# Altium integrated library Microchip Thermal Management.IntLib: 360 symbols (part 8 of 10)
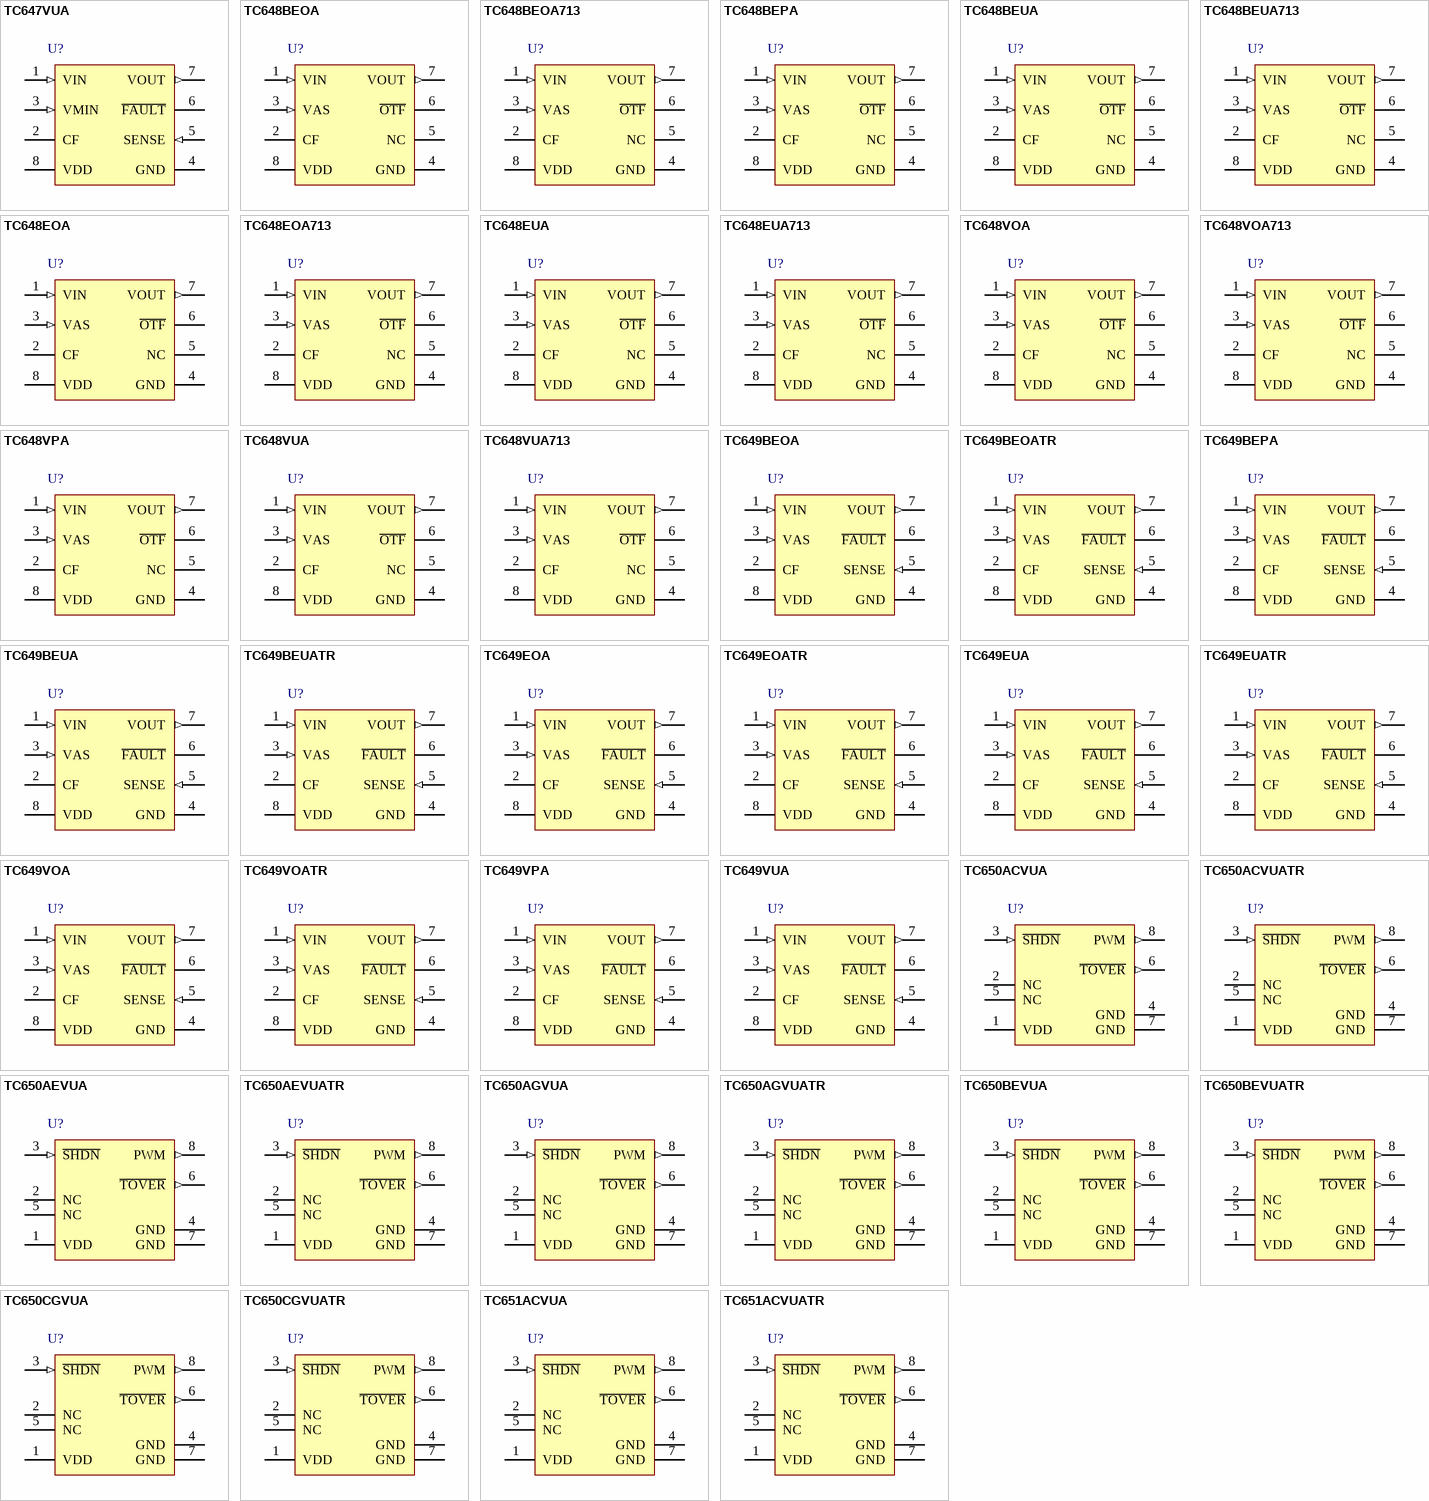
[diagram p16: symbols TC647VUA to TC651ACVUATR]

## TC649VOA
designator U?
PWM Fan Speed Controller with Auto-Shutdown and FanSense Technology, 8-Pin SOIC; Manufacturer: Microchip; PartNumber: TC649VOA; DatasheetVersion: revC, Oct-2002; PackageVersion: revBB, Aug-2009; PackageReference: SOIC-OA8; PackageDescription: 8-Lead Plastic Small Outline (OA) - Narrow, 3.90mm Body [SOIC]; Supplier 1: Digi-Key; Supplier Part Number 1: TC649VOA-ND; Supplier 2: Newark; Supplier Part Number 2: 88K1246; Supplier 3: Mouser; Supplier Part Number 3: 579-TC649VOA; Mounting Technology: Surface Mount; Code_IPC: SOIC127P600-8; ComponentLink1Description: Manufacturer URL; ComponentLink1URL: http://www.microchip.com/; ComponentLink2Description: Datasheet; ComponentLink2URL: http://ww1.microchip.com/downloads/en/DeviceDoc/21449c.pdf; ComponentLink3Description: Package Specification; ComponentLink3URL: http://www.microchip.com/stellent/groups/techpub_sg/documents/packagingspec/en012702.pdf
footprint SOIC-OA8_N (SOIC, 8-Leads, Body 4.9x3.9mm, Pitch 1.27mm, IPC Medium Density)
footprint SOIC-OA8_L (SOIC, 8-Leads, Body 4.9x3.9mm, Pitch 1.27mm, IPC High Density)
footprint SOIC-OA8_M (SOIC, 8-Leads, Body 4.9x3.9mm, Pitch 1.27mm, IPC Low Density)
pins: 1 VIN (in), 2 CF, 3 VAS (in), 4 GND (power), 5 SENSE (in), 6 ~{FAULT} (oc), 7 VOUT (out), 8 VDD (power)

## TC649VOATR
designator U?
PWM Fan Speed Controller with Auto-Shutdown and FanSense Technology, 8-Pin SOIC, Commercial Temperature, Tape and Reel; Manufacturer: Microchip; PartNumber: TC649VOATR; DatasheetVersion: revC, Oct-2002; PackageVersion: revBB, Aug-2009; PackageReference: SOIC-OA8; PackageDescription: 8-Lead Plastic Small Outline (OA) - Narrow, 3.90mm Body [SOIC]; Supplier 1: Digi-Key; Supplier Part Number 1: TC649VOATR-ND; Supplier 2: Mouser; Supplier Part Number 2: 579-TC649VOATR; Mounting Technology: Surface Mount; Code_IPC: SOIC127P600-8; ComponentLink1Description: Manufacturer URL; ComponentLink1URL: http://www.microchip.com/; ComponentLink2Description: Datasheet; ComponentLink2URL: http://ww1.microchip.com/downloads/en/DeviceDoc/21449c.pdf; ComponentLink3Description: Package Specification; ComponentLink3URL: http://www.microchip.com/stellent/groups/techpub_sg/documents/packagingspec/en012702.pdf
footprint SOIC-OA8_N (SOIC, 8-Leads, Body 4.9x3.9mm, Pitch 1.27mm, IPC Medium Density)
footprint SOIC-OA8_L (SOIC, 8-Leads, Body 4.9x3.9mm, Pitch 1.27mm, IPC High Density)
footprint SOIC-OA8_M (SOIC, 8-Leads, Body 4.9x3.9mm, Pitch 1.27mm, IPC Low Density)
pins: 1 VIN (in), 2 CF, 3 VAS (in), 4 GND (power), 5 SENSE (in), 6 ~{FAULT} (oc), 7 VOUT (out), 8 VDD (power)

## TC649VPA
designator U?
PWM Fan Speed Controller with Auto-Shutdown and FanSense Technology, 8-Pin PDIP; Manufacturer: Microchip; PartNumber: TC649VPA; DatasheetVersion: revC, Oct-2002; PackageVersion: revBB, Aug-2009; PackageReference: PDIP300-PA8; PackageDescription: 8-Lead Plastic Dual In-Line (PA) - 300 mil Body [PDIP]; Supplier 1: Digi-Key; Supplier Part Number 1: TC649VPA-ND; Supplier 2: Farnell; Supplier Part Number 2: 1852273; Supplier 3: Newark; Supplier Part Number 3: 96K4038; Supplier 4: Mouser; Supplier Part Number 4: 579-TC649VPA; Mounting Technology: Through Hole; Code_JEDEC: MS-001-BA; ComponentLink1Description: Manufacturer URL; ComponentLink1URL: http://www.microchip.com/; ComponentLink2Description: Datasheet; ComponentLink2URL: http://ww1.microchip.com/downloads/en/DeviceDoc/21449c.pdf; ComponentLink3Description: Package Specification; ComponentLink3URL: http://www.microchip.com/stellent/groups/techpub_sg/documents/packagingspec/en012702.pdf
footprint PDIP300-PA8 (DIP, 8-Leads, Row Spacing 7.62mm, Pitch 2.54mm, Body 9.5x6.6mm)
pins: 1 VIN (in), 2 CF, 3 VAS (in), 4 GND (power), 5 SENSE (in), 6 ~{FAULT} (oc), 7 VOUT (out), 8 VDD (power)

## TC649VUA
designator U?
PWM Fan Speed Controller with Auto-Shutdown and FanSense Technology, 8-Pin MSOP; Manufacturer: Microchip; PartNumber: TC649VUA; DatasheetVersion: revC, Oct-2002; PackageVersion: revBB, Aug-2009; PackageReference: MSOP-UA8; PackageDescription: 8-Lead Plastic Micro Small Outline Package (UA) [MSOP]; Supplier 1: Digi-Key; Supplier Part Number 1: TC649VUA-ND; Supplier 2: Mouser; Supplier Part Number 2: 579-TC649VUA; Mounting Technology: Surface Mount; Code_JEDEC: MO-187-AA; ComponentLink1Description: Manufacturer URL; ComponentLink1URL: http://www.microchip.com/; ComponentLink2Description: Datasheet; ComponentLink2URL: http://ww1.microchip.com/downloads/en/DeviceDoc/21449c.pdf; ComponentLink3Description: Package Specification; ComponentLink3URL: http://www.microchip.com/stellent/groups/techpub_sg/documents/packagingspec/en012702.pdf
footprint MSOP-UA8_N (TSOP, 8-Leads, Body 3x3mm, Pitch 0.65mm, IPC Medium Density)
footprint MSOP-UA8_L (TSOP, 8-Leads, Body 3x3mm, Pitch 0.65mm, IPC High Density)
footprint MSOP-UA8_M (TSOP, 8-Leads, Body 3x3mm, Pitch 0.65mm, IPC Low Density)
pins: 1 VIN (in), 2 CF, 3 VAS (in), 4 GND (power), 5 SENSE (in), 6 ~{FAULT} (oc), 7 VOUT (out), 8 VDD (power)

## TC650ACVUA
designator U?
Tiny Integrated Temperature Sensor & Brushless DC Fan Controller with Overtemperature Alert, 8-Pin MSOP, Extended Temperature; Manufacturer: Microchip; PartNumber: TC650ACVUA; DatasheetVersion: revC, Aug-2004; PackageVersion: revBB, Aug-2009; PackageReference: MSOP-UA8; PackageDescription: 8-Lead Plastic Micro Small Outline Package (UA) [MSOP]; Supplier 1: Digi-Key; Supplier Part Number 1: TC650ACVUA-ND; Supplier 2: Farnell; Supplier Part Number 2: 1852274; Supplier 3: Newark; Supplier Part Number 3: 92C6365; Supplier 4: Mouser; Supplier Part Number 4: 579-TC650ACVUA; Mounting Technology: Surface Mount; Code_JEDEC: MO-187-AA; ComponentLink1Description: Manufacturer URL; ComponentLink1URL: http://www.microchip.com/; ComponentLink2Description: Datasheet; ComponentLink2URL: http://ww1.microchip.com/downloads/en/DeviceDoc/21450c.pdf; ComponentLink3Description: Package Specification; ComponentLink3URL: http://www.microchip.com/stellent/groups/techpub_sg/documents/packagingspec/en012702.pdf
footprint MSOP-UA8_N (TSOP, 8-Leads, Body 3x3mm, Pitch 0.65mm, IPC Medium Density)
footprint MSOP-UA8_L (TSOP, 8-Leads, Body 3x3mm, Pitch 0.65mm, IPC High Density)
footprint MSOP-UA8_M (TSOP, 8-Leads, Body 3x3mm, Pitch 0.65mm, IPC Low Density)
pins: 1 VDD (power), 2 NC, 3 ~{SHDN} (in), 4 GND (power), 5 NC, 6 ~{TOVER} (out), 7 GND (power), 8 PWM (out)

## TC650ACVUATR
designator U?
Tiny Integrated Temperature Sensor & Brushless DC Fan Controller with Overtemperature Alert, 8-Pin MSOP, Extended Temperature, Tape and Reel; Manufacturer: Microchip; PartNumber: TC650ACVUATR; DatasheetVersion: revC, Aug-2004; PackageVersion: revBB, Aug-2009; PackageReference: MSOP-UA8; PackageDescription: 8-Lead Plastic Micro Small Outline Package (UA) [MSOP]; Supplier 1: Digi-Key; Supplier Part Number 1: TC650ACVUATR-ND; Supplier 2: Mouser; Supplier Part Number 2: 579-TC650ACVUATR; Mounting Technology: Surface Mount; Code_JEDEC: MO-187-AA; ComponentLink1Description: Manufacturer URL; ComponentLink1URL: http://www.microchip.com/; ComponentLink2Description: Datasheet; ComponentLink2URL: http://ww1.microchip.com/downloads/en/DeviceDoc/21450c.pdf; ComponentLink3Description: Package Specification; ComponentLink3URL: http://www.microchip.com/stellent/groups/techpub_sg/documents/packagingspec/en012702.pdf
footprint MSOP-UA8_N (TSOP, 8-Leads, Body 3x3mm, Pitch 0.65mm, IPC Medium Density)
footprint MSOP-UA8_L (TSOP, 8-Leads, Body 3x3mm, Pitch 0.65mm, IPC High Density)
footprint MSOP-UA8_M (TSOP, 8-Leads, Body 3x3mm, Pitch 0.65mm, IPC Low Density)
pins: 1 VDD (power), 2 NC, 3 ~{SHDN} (in), 4 GND (power), 5 NC, 6 ~{TOVER} (out), 7 GND (power), 8 PWM (out)

## TC650AEVUA
designator U?
Tiny Integrated Temperature Sensor & Brushless DC Fan Controller with Overtemperature Alert, 8-Pin MSOP, Extended Temperature; Manufacturer: Microchip; PartNumber: TC650AEVUA; DatasheetVersion: revC, Aug-2004; PackageVersion: revBB, Aug-2009; PackageReference: MSOP-UA8; PackageDescription: 8-Lead Plastic Micro Small Outline Package (UA) [MSOP]; Supplier 1: Digi-Key; Supplier Part Number 1: TC650AEVUA-ND; Supplier 2: Farnell; Supplier Part Number 2: 1852275; Supplier 3: Newark; Supplier Part Number 3: 92C6367; Supplier 4: Mouser; Supplier Part Number 4: 579-TC650AEVUA; Mounting Technology: Surface Mount; Code_JEDEC: MO-187-AA; ComponentLink1Description: Manufacturer URL; ComponentLink1URL: http://www.microchip.com/; ComponentLink2Description: Datasheet; ComponentLink2URL: http://ww1.microchip.com/downloads/en/DeviceDoc/21450c.pdf; ComponentLink3Description: Package Specification; ComponentLink3URL: http://www.microchip.com/stellent/groups/techpub_sg/documents/packagingspec/en012702.pdf
footprint MSOP-UA8_N (TSOP, 8-Leads, Body 3x3mm, Pitch 0.65mm, IPC Medium Density)
footprint MSOP-UA8_L (TSOP, 8-Leads, Body 3x3mm, Pitch 0.65mm, IPC High Density)
footprint MSOP-UA8_M (TSOP, 8-Leads, Body 3x3mm, Pitch 0.65mm, IPC Low Density)
pins: 1 VDD (power), 2 NC, 3 ~{SHDN} (in), 4 GND (power), 5 NC, 6 ~{TOVER} (out), 7 GND (power), 8 PWM (out)

## TC650AEVUATR
designator U?
Tiny Integrated Temperature Sensor & Brushless DC Fan Controller with Overtemperature Alert, 8-Pin MSOP, Extended Temperature, Tape and Reel; Manufacturer: Microchip; PartNumber: TC650AEVUATR; DatasheetVersion: revC, Aug-2004; PackageVersion: revBB, Aug-2009; PackageReference: MSOP-UA8; PackageDescription: 8-Lead Plastic Micro Small Outline Package (UA) [MSOP]; Supplier 1: Digi-Key; Supplier Part Number 1: TC650AEVUATR-ND; Supplier 2: Mouser; Supplier Part Number 2: 579-TC650AEVUATR; Mounting Technology: Surface Mount; Code_JEDEC: MO-187-AA; ComponentLink1Description: Manufacturer URL; ComponentLink1URL: http://www.microchip.com/; ComponentLink2Description: Datasheet; ComponentLink2URL: http://ww1.microchip.com/downloads/en/DeviceDoc/21450c.pdf; ComponentLink3Description: Package Specification; ComponentLink3URL: http://www.microchip.com/stellent/groups/techpub_sg/documents/packagingspec/en012702.pdf
footprint MSOP-UA8_N (TSOP, 8-Leads, Body 3x3mm, Pitch 0.65mm, IPC Medium Density)
footprint MSOP-UA8_L (TSOP, 8-Leads, Body 3x3mm, Pitch 0.65mm, IPC High Density)
footprint MSOP-UA8_M (TSOP, 8-Leads, Body 3x3mm, Pitch 0.65mm, IPC Low Density)
pins: 1 VDD (power), 2 NC, 3 ~{SHDN} (in), 4 GND (power), 5 NC, 6 ~{TOVER} (out), 7 GND (power), 8 PWM (out)

## TC650AGVUA
designator U?
Tiny Integrated Temperature Sensor & Brushless DC Fan Controller with Overtemperature Alert, 8-Pin MSOP, Extended Temperature; Manufacturer: Microchip; PartNumber: TC650AGVUA; DatasheetVersion: revC, Aug-2004; PackageVersion: revBB, Aug-2009; PackageReference: MSOP-UA8; PackageDescription: 8-Lead Plastic Micro Small Outline Package (UA) [MSOP]; Supplier 1: Digi-Key; Supplier Part Number 1: TC650AGVUA-ND; Supplier 2: Farnell; Supplier Part Number 2: 1852276; Supplier 3: Newark; Supplier Part Number 3: 92C6369; Supplier 4: Mouser; Supplier Part Number 4: 579-TC650AGVUA; Mounting Technology: Surface Mount; Code_JEDEC: MO-187-AA; ComponentLink1Description: Manufacturer URL; ComponentLink1URL: http://www.microchip.com/; ComponentLink2Description: Datasheet; ComponentLink2URL: http://ww1.microchip.com/downloads/en/DeviceDoc/21450c.pdf; ComponentLink3Description: Package Specification; ComponentLink3URL: http://www.microchip.com/stellent/groups/techpub_sg/documents/packagingspec/en012702.pdf
footprint MSOP-UA8_N (TSOP, 8-Leads, Body 3x3mm, Pitch 0.65mm, IPC Medium Density)
footprint MSOP-UA8_L (TSOP, 8-Leads, Body 3x3mm, Pitch 0.65mm, IPC High Density)
footprint MSOP-UA8_M (TSOP, 8-Leads, Body 3x3mm, Pitch 0.65mm, IPC Low Density)
pins: 1 VDD (power), 2 NC, 3 ~{SHDN} (in), 4 GND (power), 5 NC, 6 ~{TOVER} (out), 7 GND (power), 8 PWM (out)

## TC650AGVUATR
designator U?
Tiny Integrated Temperature Sensor & Brushless DC Fan Controller with Overtemperature Alert, 8-Pin MSOP, Extended Temperature, Tape and Reel; Manufacturer: Microchip; PartNumber: TC650AGVUATR; DatasheetVersion: revC, Aug-2004; PackageVersion: revBB, Aug-2009; PackageReference: MSOP-UA8; PackageDescription: 8-Lead Plastic Micro Small Outline Package (UA) [MSOP]; Supplier 1: Digi-Key; Supplier Part Number 1: TC650AGVUATR-ND; Supplier 2: Mouser; Supplier Part Number 2: 579-TC650AGVUATR; Mounting Technology: Surface Mount; Code_JEDEC: MO-187-AA; ComponentLink1Description: Manufacturer URL; ComponentLink1URL: http://www.microchip.com/; ComponentLink2Description: Datasheet; ComponentLink2URL: http://ww1.microchip.com/downloads/en/DeviceDoc/21450c.pdf; ComponentLink3Description: Package Specification; ComponentLink3URL: http://www.microchip.com/stellent/groups/techpub_sg/documents/packagingspec/en012702.pdf
footprint MSOP-UA8_N (TSOP, 8-Leads, Body 3x3mm, Pitch 0.65mm, IPC Medium Density)
footprint MSOP-UA8_L (TSOP, 8-Leads, Body 3x3mm, Pitch 0.65mm, IPC High Density)
footprint MSOP-UA8_M (TSOP, 8-Leads, Body 3x3mm, Pitch 0.65mm, IPC Low Density)
pins: 1 VDD (power), 2 NC, 3 ~{SHDN} (in), 4 GND (power), 5 NC, 6 ~{TOVER} (out), 7 GND (power), 8 PWM (out)

## TC650BEVUA
designator U?
Tiny Integrated Temperature Sensor & Brushless DC Fan Controller with Overtemperature Alert, 8-Pin MSOP, Extended Temperature; Manufacturer: Microchip; PartNumber: TC650BEVUA; DatasheetVersion: revC, Aug-2004; PackageVersion: revBB, Aug-2009; PackageReference: MSOP-UA8; PackageDescription: 8-Lead Plastic Micro Small Outline Package (UA) [MSOP]; Supplier 1: Digi-Key; Supplier Part Number 1: TC650BEVUA-ND; Supplier 2: Farnell; Supplier Part Number 2: 1852277; Supplier 3: Newark; Supplier Part Number 3: 92C6371; Supplier 4: Mouser; Supplier Part Number 4: 579-TC650BEVUA; Mounting Technology: Surface Mount; Code_JEDEC: MO-187-AA; ComponentLink1Description: Manufacturer URL; ComponentLink1URL: http://www.microchip.com/; ComponentLink2Description: Datasheet; ComponentLink2URL: http://ww1.microchip.com/downloads/en/DeviceDoc/21450c.pdf; ComponentLink3Description: Package Specification; ComponentLink3URL: http://www.microchip.com/stellent/groups/techpub_sg/documents/packagingspec/en012702.pdf
footprint MSOP-UA8_N (TSOP, 8-Leads, Body 3x3mm, Pitch 0.65mm, IPC Medium Density)
footprint MSOP-UA8_L (TSOP, 8-Leads, Body 3x3mm, Pitch 0.65mm, IPC High Density)
footprint MSOP-UA8_M (TSOP, 8-Leads, Body 3x3mm, Pitch 0.65mm, IPC Low Density)
pins: 1 VDD (power), 2 NC, 3 ~{SHDN} (in), 4 GND (power), 5 NC, 6 ~{TOVER} (out), 7 GND (power), 8 PWM (out)

## TC650BEVUATR
designator U?
Tiny Integrated Temperature Sensor & Brushless DC Fan Controller with Overtemperature Alert, 8-Pin MSOP, Extended Temperature, Tape and Reel; Manufacturer: Microchip; PartNumber: TC650BEVUATR; DatasheetVersion: revC, Aug-2004; PackageVersion: revBB, Aug-2009; PackageReference: MSOP-UA8; PackageDescription: 8-Lead Plastic Micro Small Outline Package (UA) [MSOP]; Supplier 1: Digi-Key; Supplier Part Number 1: TC650BEVUATR-ND; Supplier 2: Mouser; Supplier Part Number 2: 579-TC650BEVUATR; Mounting Technology: Surface Mount; Code_JEDEC: MO-187-AA; ComponentLink1Description: Manufacturer URL; ComponentLink1URL: http://www.microchip.com/; ComponentLink2Description: Datasheet; ComponentLink2URL: http://ww1.microchip.com/downloads/en/DeviceDoc/21450c.pdf; ComponentLink3Description: Package Specification; ComponentLink3URL: http://www.microchip.com/stellent/groups/techpub_sg/documents/packagingspec/en012702.pdf
footprint MSOP-UA8_N (TSOP, 8-Leads, Body 3x3mm, Pitch 0.65mm, IPC Medium Density)
footprint MSOP-UA8_L (TSOP, 8-Leads, Body 3x3mm, Pitch 0.65mm, IPC High Density)
footprint MSOP-UA8_M (TSOP, 8-Leads, Body 3x3mm, Pitch 0.65mm, IPC Low Density)
pins: 1 VDD (power), 2 NC, 3 ~{SHDN} (in), 4 GND (power), 5 NC, 6 ~{TOVER} (out), 7 GND (power), 8 PWM (out)

## TC650CGVUA
designator U?
Tiny Integrated Temperature Sensor & Brushless DC Fan Controller with Overtemperature Alert, 8-Pin MSOP, Extended Temperature; Manufacturer: Microchip; PartNumber: TC650CGVUA; DatasheetVersion: revC, Aug-2004; PackageVersion: revBB, Aug-2009; PackageReference: MSOP-UA8; PackageDescription: 8-Lead Plastic Micro Small Outline Package (UA) [MSOP]; Supplier 1: Digi-Key; Supplier Part Number 1: TC650CGVUA-ND; Supplier 2: Farnell; Supplier Part Number 2: 1852278; Supplier 3: Newark; Supplier Part Number 3: 92C6373; Supplier 4: Mouser; Supplier Part Number 4: 579-TC650CGVUA; Mounting Technology: Surface Mount; Code_JEDEC: MO-187-AA; ComponentLink1Description: Manufacturer URL; ComponentLink1URL: http://www.microchip.com/; ComponentLink2Description: Datasheet; ComponentLink2URL: http://ww1.microchip.com/downloads/en/DeviceDoc/21450c.pdf; ComponentLink3Description: Package Specification; ComponentLink3URL: http://www.microchip.com/stellent/groups/techpub_sg/documents/packagingspec/en012702.pdf
footprint MSOP-UA8_N (TSOP, 8-Leads, Body 3x3mm, Pitch 0.65mm, IPC Medium Density)
footprint MSOP-UA8_L (TSOP, 8-Leads, Body 3x3mm, Pitch 0.65mm, IPC High Density)
footprint MSOP-UA8_M (TSOP, 8-Leads, Body 3x3mm, Pitch 0.65mm, IPC Low Density)
pins: 1 VDD (power), 2 NC, 3 ~{SHDN} (in), 4 GND (power), 5 NC, 6 ~{TOVER} (out), 7 GND (power), 8 PWM (out)

## TC650CGVUATR
designator U?
Tiny Integrated Temperature Sensor & Brushless DC Fan Controller with Overtemperature Alert, 8-Pin MSOP, Extended Temperature, Tape and Reel; Manufacturer: Microchip; PartNumber: TC650CGVUATR; DatasheetVersion: revC, Aug-2004; PackageVersion: revBB, Aug-2009; PackageReference: MSOP-UA8; PackageDescription: 8-Lead Plastic Micro Small Outline Package (UA) [MSOP]; Supplier 1: Digi-Key; Supplier Part Number 1: TC650CGVUATR-ND; Supplier 2: Mouser; Supplier Part Number 2: 579-TC650CGVUATR; Mounting Technology: Surface Mount; Code_JEDEC: MO-187-AA; ComponentLink1Description: Manufacturer URL; ComponentLink1URL: http://www.microchip.com/; ComponentLink2Description: Datasheet; ComponentLink2URL: http://ww1.microchip.com/downloads/en/DeviceDoc/21450c.pdf; ComponentLink3Description: Package Specification; ComponentLink3URL: http://www.microchip.com/stellent/groups/techpub_sg/documents/packagingspec/en012702.pdf
footprint MSOP-UA8_N (TSOP, 8-Leads, Body 3x3mm, Pitch 0.65mm, IPC Medium Density)
footprint MSOP-UA8_L (TSOP, 8-Leads, Body 3x3mm, Pitch 0.65mm, IPC High Density)
footprint MSOP-UA8_M (TSOP, 8-Leads, Body 3x3mm, Pitch 0.65mm, IPC Low Density)
pins: 1 VDD (power), 2 NC, 3 ~{SHDN} (in), 4 GND (power), 5 NC, 6 ~{TOVER} (out), 7 GND (power), 8 PWM (out)

## TC651ACVUA
designator U?
Tiny Integrated Temperature Sensor & Brushless DC Fan Controller with Overtemperature Alert, 8-Pin MSOP, Extended Temperature; Manufacturer: Microchip; PartNumber: TC651ACVUA; DatasheetVersion: revC, Aug-2004; PackageVersion: revBB, Aug-2009; PackageReference: MSOP-UA8; PackageDescription: 8-Lead Plastic Micro Small Outline Package (UA) [MSOP]; Supplier 1: Digi-Key; Supplier Part Number 1: TC651ACVUA-ND; Supplier 2: Farnell; Supplier Part Number 2: 1852281; Supplier 3: Newark; Supplier Part Number 3: 92C6396; Supplier 4: Mouser; Supplier Part Number 4: 579-TC651ACVUA; Mounting Technology: Surface Mount; Code_JEDEC: MO-187-AA; ComponentLink1Description: Manufacturer URL; ComponentLink1URL: http://www.microchip.com/; ComponentLink2Description: Datasheet; ComponentLink2URL: http://ww1.microchip.com/downloads/en/DeviceDoc/21450c.pdf; ComponentLink3Description: Package Specification; ComponentLink3URL: http://www.microchip.com/stellent/groups/techpub_sg/documents/packagingspec/en012702.pdf
footprint MSOP-UA8_N (TSOP, 8-Leads, Body 3x3mm, Pitch 0.65mm, IPC Medium Density)
footprint MSOP-UA8_L (TSOP, 8-Leads, Body 3x3mm, Pitch 0.65mm, IPC High Density)
footprint MSOP-UA8_M (TSOP, 8-Leads, Body 3x3mm, Pitch 0.65mm, IPC Low Density)
pins: 1 VDD (power), 2 NC, 3 ~{SHDN} (in), 4 GND (power), 5 NC, 6 ~{TOVER} (out), 7 GND (power), 8 PWM (out)

## TC651ACVUATR
designator U?
Tiny Integrated Temperature Sensor & Brushless DC Fan Controller with Overtemperature Alert, 8-Pin MSOP, Extended Temperature, Tape and Reel; Manufacturer: Microchip; PartNumber: TC651ACVUATR; DatasheetVersion: revC, Aug-2004; PackageVersion: revBB, Aug-2009; PackageReference: MSOP-UA8; PackageDescription: 8-Lead Plastic Micro Small Outline Package (UA) [MSOP]; Supplier 1: Digi-Key; Supplier Part Number 1: TC651ACVUATR-ND; Supplier 2: Mouser; Supplier Part Number 2: 579-TC651ACVUATR; Mounting Technology: Surface Mount; Code_JEDEC: MO-187-AA; ComponentLink1Description: Manufacturer URL; ComponentLink1URL: http://www.microchip.com/; ComponentLink2Description: Datasheet; ComponentLink2URL: http://ww1.microchip.com/downloads/en/DeviceDoc/21450c.pdf; ComponentLink3Description: Package Specification; ComponentLink3URL: http://www.microchip.com/stellent/groups/techpub_sg/documents/packagingspec/en012702.pdf
footprint MSOP-UA8_N (TSOP, 8-Leads, Body 3x3mm, Pitch 0.65mm, IPC Medium Density)
footprint MSOP-UA8_L (TSOP, 8-Leads, Body 3x3mm, Pitch 0.65mm, IPC High Density)
footprint MSOP-UA8_M (TSOP, 8-Leads, Body 3x3mm, Pitch 0.65mm, IPC Low Density)
pins: 1 VDD (power), 2 NC, 3 ~{SHDN} (in), 4 GND (power), 5 NC, 6 ~{TOVER} (out), 7 GND (power), 8 PWM (out)

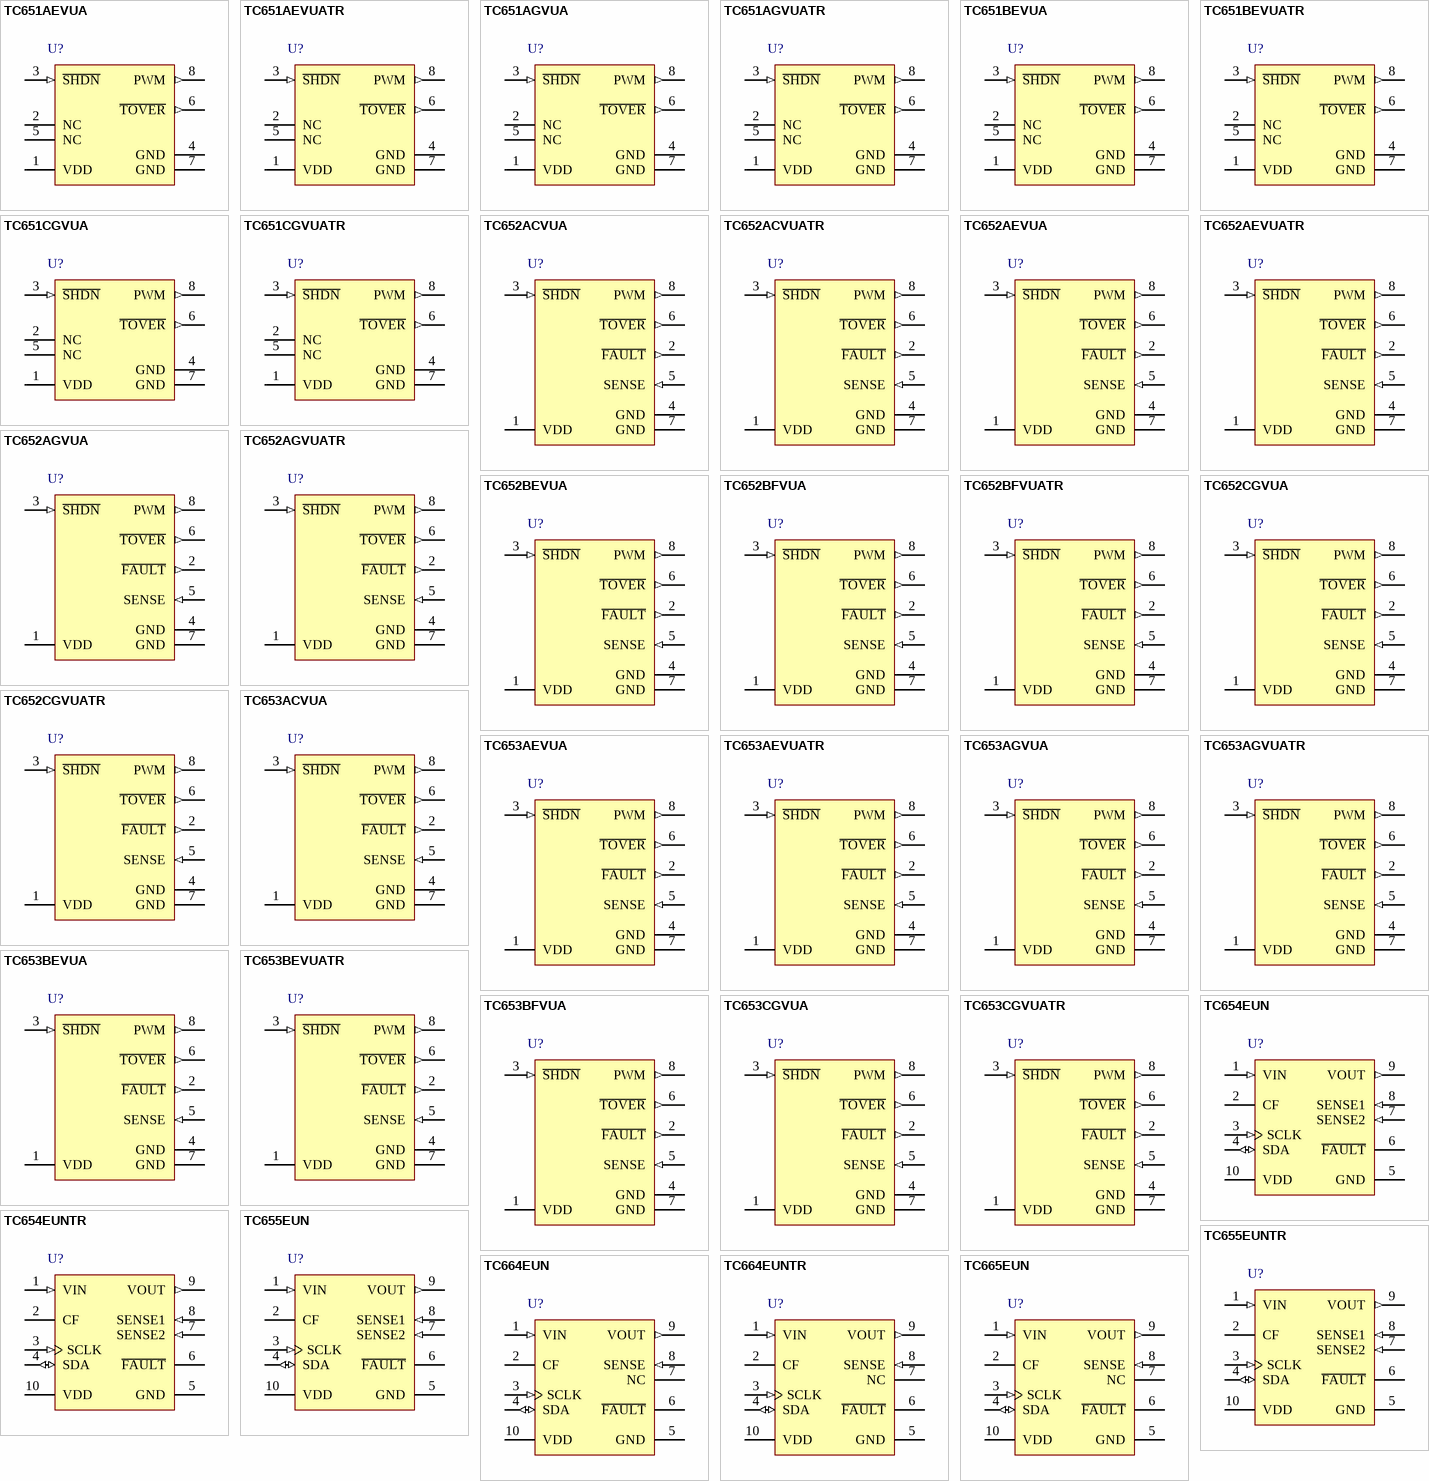
[diagram p7: symbols TC651AEVUA to TC665EUN]

## TC651AEVUA
designator U?
Tiny Integrated Temperature Sensor & Brushless DC Fan Controller with Overtemperature Alert, 8-Pin MSOP, Extended Temperature; Manufacturer: Microchip; PartNumber: TC651AEVUA; DatasheetVersion: revC, Aug-2004; PackageVersion: revBB, Aug-2009; PackageReference: MSOP-UA8; PackageDescription: 8-Lead Plastic Micro Small Outline Package (UA) [MSOP]; Supplier 1: Digi-Key; Supplier Part Number 1: TC651AEVUA-ND; Supplier 2: Newark; Supplier Part Number 2: 96K4039; Supplier 3: Mouser; Supplier Part Number 3: 579-TC651AEVUA; Mounting Technology: Surface Mount; Code_JEDEC: MO-187-AA; ComponentLink1Description: Manufacturer URL; ComponentLink1URL: http://www.microchip.com/; ComponentLink2Description: Datasheet; ComponentLink2URL: http://ww1.microchip.com/downloads/en/DeviceDoc/21450c.pdf; ComponentLink3Description: Package Specification; ComponentLink3URL: http://www.microchip.com/stellent/groups/techpub_sg/documents/packagingspec/en012702.pdf
footprint MSOP-UA8_N (TSOP, 8-Leads, Body 3x3mm, Pitch 0.65mm, IPC Medium Density)
footprint MSOP-UA8_L (TSOP, 8-Leads, Body 3x3mm, Pitch 0.65mm, IPC High Density)
footprint MSOP-UA8_M (TSOP, 8-Leads, Body 3x3mm, Pitch 0.65mm, IPC Low Density)
pins: 1 VDD (power), 2 NC, 3 ~{SHDN} (in), 4 GND (power), 5 NC, 6 ~{TOVER} (out), 7 GND (power), 8 PWM (out)

## TC651AEVUATR
designator U?
Tiny Integrated Temperature Sensor & Brushless DC Fan Controller with Overtemperature Alert, 8-Pin MSOP, Extended Temperature, Tape and Reel; Manufacturer: Microchip; PartNumber: TC651AEVUATR; DatasheetVersion: revC, Aug-2004; PackageVersion: revBB, Aug-2009; PackageReference: MSOP-UA8; PackageDescription: 8-Lead Plastic Micro Small Outline Package (UA) [MSOP]; Supplier 1: Digi-Key; Supplier Part Number 1: TC651AEVUATR-ND; Supplier 2: Mouser; Supplier Part Number 2: 579-TC651AEVUATR; Mounting Technology: Surface Mount; Code_JEDEC: MO-187-AA; ComponentLink1Description: Manufacturer URL; ComponentLink1URL: http://www.microchip.com/; ComponentLink2Description: Datasheet; ComponentLink2URL: http://ww1.microchip.com/downloads/en/DeviceDoc/21450c.pdf; ComponentLink3Description: Package Specification; ComponentLink3URL: http://www.microchip.com/stellent/groups/techpub_sg/documents/packagingspec/en012702.pdf
footprint MSOP-UA8_N (TSOP, 8-Leads, Body 3x3mm, Pitch 0.65mm, IPC Medium Density)
footprint MSOP-UA8_L (TSOP, 8-Leads, Body 3x3mm, Pitch 0.65mm, IPC High Density)
footprint MSOP-UA8_M (TSOP, 8-Leads, Body 3x3mm, Pitch 0.65mm, IPC Low Density)
pins: 1 VDD (power), 2 NC, 3 ~{SHDN} (in), 4 GND (power), 5 NC, 6 ~{TOVER} (out), 7 GND (power), 8 PWM (out)

## TC651AGVUA
designator U?
Tiny Integrated Temperature Sensor & Brushless DC Fan Controller with Overtemperature Alert, 8-Pin MSOP, Extended Temperature; Manufacturer: Microchip; PartNumber: TC651AGVUA; DatasheetVersion: revC, Aug-2004; PackageVersion: revBB, Aug-2009; PackageReference: MSOP-UA8; PackageDescription: 8-Lead Plastic Micro Small Outline Package (UA) [MSOP]; Supplier 1: Digi-Key; Supplier Part Number 1: TC651AGVUA-ND; Supplier 2: Farnell; Supplier Part Number 2: 1852282; Supplier 3: Newark; Supplier Part Number 3: 92C6400; Supplier 4: Mouser; Supplier Part Number 4: 579-TC651AGVUA; Mounting Technology: Surface Mount; Code_JEDEC: MO-187-AA; ComponentLink1Description: Manufacturer URL; ComponentLink1URL: http://www.microchip.com/; ComponentLink2Description: Datasheet; ComponentLink2URL: http://ww1.microchip.com/downloads/en/DeviceDoc/21450c.pdf; ComponentLink3Description: Package Specification; ComponentLink3URL: http://www.microchip.com/stellent/groups/techpub_sg/documents/packagingspec/en012702.pdf
footprint MSOP-UA8_N (TSOP, 8-Leads, Body 3x3mm, Pitch 0.65mm, IPC Medium Density)
footprint MSOP-UA8_L (TSOP, 8-Leads, Body 3x3mm, Pitch 0.65mm, IPC High Density)
footprint MSOP-UA8_M (TSOP, 8-Leads, Body 3x3mm, Pitch 0.65mm, IPC Low Density)
pins: 1 VDD (power), 2 NC, 3 ~{SHDN} (in), 4 GND (power), 5 NC, 6 ~{TOVER} (out), 7 GND (power), 8 PWM (out)

## TC651AGVUATR
designator U?
Tiny Integrated Temperature Sensor & Brushless DC Fan Controller with Overtemperature Alert, 8-Pin MSOP, Extended Temperature, Tape and Reel; Manufacturer: Microchip; PartNumber: TC651AGVUATR; DatasheetVersion: revC, Aug-2004; PackageVersion: revBB, Aug-2009; PackageReference: MSOP-UA8; PackageDescription: 8-Lead Plastic Micro Small Outline Package (UA) [MSOP]; Supplier 1: Digi-Key; Supplier Part Number 1: TC651AGVUATR-ND; Supplier 2: Mouser; Supplier Part Number 2: 579-TC651AGVUATR; Mounting Technology: Surface Mount; Code_JEDEC: MO-187-AA; ComponentLink1Description: Manufacturer URL; ComponentLink1URL: http://www.microchip.com/; ComponentLink2Description: Datasheet; ComponentLink2URL: http://ww1.microchip.com/downloads/en/DeviceDoc/21450c.pdf; ComponentLink3Description: Package Specification; ComponentLink3URL: http://www.microchip.com/stellent/groups/techpub_sg/documents/packagingspec/en012702.pdf
footprint MSOP-UA8_N (TSOP, 8-Leads, Body 3x3mm, Pitch 0.65mm, IPC Medium Density)
footprint MSOP-UA8_L (TSOP, 8-Leads, Body 3x3mm, Pitch 0.65mm, IPC High Density)
footprint MSOP-UA8_M (TSOP, 8-Leads, Body 3x3mm, Pitch 0.65mm, IPC Low Density)
pins: 1 VDD (power), 2 NC, 3 ~{SHDN} (in), 4 GND (power), 5 NC, 6 ~{TOVER} (out), 7 GND (power), 8 PWM (out)

## TC651BEVUA
designator U?
Tiny Integrated Temperature Sensor & Brushless DC Fan Controller with Overtemperature Alert, 8-Pin MSOP, Extended Temperature; Manufacturer: Microchip; PartNumber: TC651BEVUA; DatasheetVersion: revC, Aug-2004; PackageVersion: revBB, Aug-2009; PackageReference: MSOP-UA8; PackageDescription: 8-Lead Plastic Micro Small Outline Package (UA) [MSOP]; Supplier 1: Digi-Key; Supplier Part Number 1: TC651BEVUA-ND; Supplier 2: Farnell; Supplier Part Number 2: 1852283; Supplier 3: Newark; Supplier Part Number 3: 92C6402; Supplier 4: Mouser; Supplier Part Number 4: 579-TC651BEVUA; Mounting Technology: Surface Mount; Code_JEDEC: MO-187-AA; ComponentLink1Description: Manufacturer URL; ComponentLink1URL: http://www.microchip.com/; ComponentLink2Description: Datasheet; ComponentLink2URL: http://ww1.microchip.com/downloads/en/DeviceDoc/21450c.pdf; ComponentLink3Description: Package Specification; ComponentLink3URL: http://www.microchip.com/stellent/groups/techpub_sg/documents/packagingspec/en012702.pdf
footprint MSOP-UA8_N (TSOP, 8-Leads, Body 3x3mm, Pitch 0.65mm, IPC Medium Density)
footprint MSOP-UA8_L (TSOP, 8-Leads, Body 3x3mm, Pitch 0.65mm, IPC High Density)
footprint MSOP-UA8_M (TSOP, 8-Leads, Body 3x3mm, Pitch 0.65mm, IPC Low Density)
pins: 1 VDD (power), 2 NC, 3 ~{SHDN} (in), 4 GND (power), 5 NC, 6 ~{TOVER} (out), 7 GND (power), 8 PWM (out)

## TC651BEVUATR
designator U?
Tiny Integrated Temperature Sensor & Brushless DC Fan Controller with Overtemperature Alert, 8-Pin MSOP, Extended Temperature, Tape and Reel; Manufacturer: Microchip; PartNumber: TC651BEVUATR; DatasheetVersion: revC, Aug-2004; PackageVersion: revBB, Aug-2009; PackageReference: MSOP-UA8; PackageDescription: 8-Lead Plastic Micro Small Outline Package (UA) [MSOP]; Supplier 1: Digi-Key; Supplier Part Number 1: TC651BEVUATR-ND; Supplier 2: Mouser; Supplier Part Number 2: 579-TC651BEVUATR; Mounting Technology: Surface Mount; Code_JEDEC: MO-187-AA; ComponentLink1Description: Manufacturer URL; ComponentLink1URL: http://www.microchip.com/; ComponentLink2Description: Datasheet; ComponentLink2URL: http://ww1.microchip.com/downloads/en/DeviceDoc/21450c.pdf; ComponentLink3Description: Package Specification; ComponentLink3URL: http://www.microchip.com/stellent/groups/techpub_sg/documents/packagingspec/en012702.pdf
footprint MSOP-UA8_N (TSOP, 8-Leads, Body 3x3mm, Pitch 0.65mm, IPC Medium Density)
footprint MSOP-UA8_L (TSOP, 8-Leads, Body 3x3mm, Pitch 0.65mm, IPC High Density)
footprint MSOP-UA8_M (TSOP, 8-Leads, Body 3x3mm, Pitch 0.65mm, IPC Low Density)
pins: 1 VDD (power), 2 NC, 3 ~{SHDN} (in), 4 GND (power), 5 NC, 6 ~{TOVER} (out), 7 GND (power), 8 PWM (out)

## TC651CGVUA
designator U?
Tiny Integrated Temperature Sensor & Brushless DC Fan Controller with Overtemperature Alert, 8-Pin MSOP, Extended Temperature; Manufacturer: Microchip; PartNumber: TC651CGVUA; DatasheetVersion: revC, Aug-2004; PackageVersion: revBB, Aug-2009; PackageReference: MSOP-UA8; PackageDescription: 8-Lead Plastic Micro Small Outline Package (UA) [MSOP]; Supplier 1: Digi-Key; Supplier Part Number 1: TC651CGVUA-ND; Supplier 2: Farnell; Supplier Part Number 2: 1852284; Supplier 3: Newark; Supplier Part Number 3: 92C6404; Supplier 4: Mouser; Supplier Part Number 4: 579-TC651CGVUA; Mounting Technology: Surface Mount; Code_JEDEC: MO-187-AA; ComponentLink1Description: Manufacturer URL; ComponentLink1URL: http://www.microchip.com/; ComponentLink2Description: Datasheet; ComponentLink2URL: http://ww1.microchip.com/downloads/en/DeviceDoc/21450c.pdf; ComponentLink3Description: Package Specification; ComponentLink3URL: http://www.microchip.com/stellent/groups/techpub_sg/documents/packagingspec/en012702.pdf
footprint MSOP-UA8_N (TSOP, 8-Leads, Body 3x3mm, Pitch 0.65mm, IPC Medium Density)
footprint MSOP-UA8_L (TSOP, 8-Leads, Body 3x3mm, Pitch 0.65mm, IPC High Density)
footprint MSOP-UA8_M (TSOP, 8-Leads, Body 3x3mm, Pitch 0.65mm, IPC Low Density)
pins: 1 VDD (power), 2 NC, 3 ~{SHDN} (in), 4 GND (power), 5 NC, 6 ~{TOVER} (out), 7 GND (power), 8 PWM (out)

## TC651CGVUATR
designator U?
Tiny Integrated Temperature Sensor & Brushless DC Fan Controller with Overtemperature Alert, 8-Pin MSOP, Extended Temperature, Tape and Reel; Manufacturer: Microchip; PartNumber: TC651CGVUATR; DatasheetVersion: revC, Aug-2004; PackageVersion: revBB, Aug-2009; PackageReference: MSOP-UA8; PackageDescription: 8-Lead Plastic Micro Small Outline Package (UA) [MSOP]; Supplier 1: Digi-Key; Supplier Part Number 1: TC651CGVUATR-ND; Supplier 2: Mouser; Supplier Part Number 2: 579-TC651CGVUATR; Mounting Technology: Surface Mount; Code_JEDEC: MO-187-AA; ComponentLink1Description: Manufacturer URL; ComponentLink1URL: http://www.microchip.com/; ComponentLink2Description: Datasheet; ComponentLink2URL: http://ww1.microchip.com/downloads/en/DeviceDoc/21450c.pdf; ComponentLink3Description: Package Specification; ComponentLink3URL: http://www.microchip.com/stellent/groups/techpub_sg/documents/packagingspec/en012702.pdf
footprint MSOP-UA8_N (TSOP, 8-Leads, Body 3x3mm, Pitch 0.65mm, IPC Medium Density)
footprint MSOP-UA8_L (TSOP, 8-Leads, Body 3x3mm, Pitch 0.65mm, IPC High Density)
footprint MSOP-UA8_M (TSOP, 8-Leads, Body 3x3mm, Pitch 0.65mm, IPC Low Density)
pins: 1 VDD (power), 2 NC, 3 ~{SHDN} (in), 4 GND (power), 5 NC, 6 ~{TOVER} (out), 7 GND (power), 8 PWM (out)

## TC652ACVUA
designator U?
Integrated Temperature Sensor & Brushless DC Fan Controller with FanSense Detect & Over-Temperature, 8-Pin MSOP, Extended Temperature; Manufacturer: Microchip; PartNumber: TC652ACVUA; DatasheetVersion: revB, May-2002; PackageVersion: revBB, Aug-2009; PackageReference: MSOP-UA8; PackageDescription: 8-Lead Plastic Micro Small Outline Package (UA) [MSOP]; Supplier 1: Digi-Key; Supplier Part Number 1: TC652ACVUA-ND; Supplier 2: Newark; Supplier Part Number 2: 92C6406; Supplier 3: Mouser; Supplier Part Number 3: 579-TC652ACVUA; Mounting Technology: Surface Mount; Code_JEDEC: MO-187-AA; ComponentLink1Description: Manufacturer URL; ComponentLink1URL: http://www.microchip.com/; ComponentLink2Description: Datasheet; ComponentLink2URL: http://ww1.microchip.com/downloads/en/DeviceDoc/21452b.pdf; ComponentLink3Description: Package Specification; ComponentLink3URL: http://www.microchip.com/stellent/groups/techpub_sg/documents/packagingspec/en012702.pdf
footprint MSOP-UA8_N (TSOP, 8-Leads, Body 3x3mm, Pitch 0.65mm, IPC Medium Density)
footprint MSOP-UA8_L (TSOP, 8-Leads, Body 3x3mm, Pitch 0.65mm, IPC High Density)
footprint MSOP-UA8_M (TSOP, 8-Leads, Body 3x3mm, Pitch 0.65mm, IPC Low Density)
pins: 1 VDD (power), 2 ~{FAULT} (out), 3 ~{SHDN} (in), 4 GND (power), 5 SENSE (in), 6 ~{TOVER} (out), 7 GND (power), 8 PWM (out)

## TC652ACVUATR
designator U?
Integrated Temperature Sensor & Brushless DC Fan Controller with FanSense Detect & Over-Temperature, 8-Pin MSOP, Extended Temperature, Tape and Reel; Manufacturer: Microchip; PartNumber: TC652ACVUATR; DatasheetVersion: revB, May-2002; PackageVersion: revBB, Aug-2009; PackageReference: MSOP-UA8; PackageDescription: 8-Lead Plastic Micro Small Outline Package (UA) [MSOP]; Supplier 1: Digi-Key; Supplier Part Number 1: TC652ACVUATR-ND; Supplier 2: Mouser; Supplier Part Number 2: 579-TC652ACVUATR; Mounting Technology: Surface Mount; Code_JEDEC: MO-187-AA; ComponentLink1Description: Manufacturer URL; ComponentLink1URL: http://www.microchip.com/; ComponentLink2Description: Datasheet; ComponentLink2URL: http://ww1.microchip.com/downloads/en/DeviceDoc/21452b.pdf; ComponentLink3Description: Package Specification; ComponentLink3URL: http://www.microchip.com/stellent/groups/techpub_sg/documents/packagingspec/en012702.pdf
footprint MSOP-UA8_N (TSOP, 8-Leads, Body 3x3mm, Pitch 0.65mm, IPC Medium Density)
footprint MSOP-UA8_L (TSOP, 8-Leads, Body 3x3mm, Pitch 0.65mm, IPC High Density)
footprint MSOP-UA8_M (TSOP, 8-Leads, Body 3x3mm, Pitch 0.65mm, IPC Low Density)
pins: 1 VDD (power), 2 ~{FAULT} (out), 3 ~{SHDN} (in), 4 GND (power), 5 SENSE (in), 6 ~{TOVER} (out), 7 GND (power), 8 PWM (out)

## TC652AEVUA
designator U?
Integrated Temperature Sensor & Brushless DC Fan Controller with FanSense Detect & Over-Temperature, 8-Pin MSOP, Extended Temperature; Manufacturer: Microchip; PartNumber: TC652AEVUA; DatasheetVersion: revB, May-2002; PackageVersion: revBB, Aug-2009; PackageReference: MSOP-UA8; PackageDescription: 8-Lead Plastic Micro Small Outline Package (UA) [MSOP]; Supplier 1: Digi-Key; Supplier Part Number 1: TC652AEVUA-ND; Supplier 2: Farnell; Supplier Part Number 2: 1852285; Supplier 3: Newark; Supplier Part Number 3: 80K6161; Supplier 4: Mouser; Supplier Part Number 4: 579-TC652AEVUA; Mounting Technology: Surface Mount; Code_JEDEC: MO-187-AA; ComponentLink1Description: Manufacturer URL; ComponentLink1URL: http://www.microchip.com/; ComponentLink2Description: Datasheet; ComponentLink2URL: http://ww1.microchip.com/downloads/en/DeviceDoc/21452b.pdf; ComponentLink3Description: Package Specification; ComponentLink3URL: http://www.microchip.com/stellent/groups/techpub_sg/documents/packagingspec/en012702.pdf
footprint MSOP-UA8_N (TSOP, 8-Leads, Body 3x3mm, Pitch 0.65mm, IPC Medium Density)
footprint MSOP-UA8_L (TSOP, 8-Leads, Body 3x3mm, Pitch 0.65mm, IPC High Density)
footprint MSOP-UA8_M (TSOP, 8-Leads, Body 3x3mm, Pitch 0.65mm, IPC Low Density)
pins: 1 VDD (power), 2 ~{FAULT} (out), 3 ~{SHDN} (in), 4 GND (power), 5 SENSE (in), 6 ~{TOVER} (out), 7 GND (power), 8 PWM (out)

## TC652AEVUATR
designator U?
Integrated Temperature Sensor & Brushless DC Fan Controller with FanSense Detect & Over-Temperature, 8-Pin MSOP, Extended Temperature, Tape and Reel; Manufacturer: Microchip; PartNumber: TC652AEVUATR; DatasheetVersion: revB, May-2002; PackageVersion: revBB, Aug-2009; PackageReference: MSOP-UA8; PackageDescription: 8-Lead Plastic Micro Small Outline Package (UA) [MSOP]; Supplier 1: Digi-Key; Supplier Part Number 1: TC652AEVUATR-ND; Supplier 2: Mouser; Supplier Part Number 2: 579-TC652AEVUATR; Mounting Technology: Surface Mount; Code_JEDEC: MO-187-AA; ComponentLink1Description: Manufacturer URL; ComponentLink1URL: http://www.microchip.com/; ComponentLink2Description: Datasheet; ComponentLink2URL: http://ww1.microchip.com/downloads/en/DeviceDoc/21452b.pdf; ComponentLink3Description: Package Specification; ComponentLink3URL: http://www.microchip.com/stellent/groups/techpub_sg/documents/packagingspec/en012702.pdf
footprint MSOP-UA8_N (TSOP, 8-Leads, Body 3x3mm, Pitch 0.65mm, IPC Medium Density)
footprint MSOP-UA8_L (TSOP, 8-Leads, Body 3x3mm, Pitch 0.65mm, IPC High Density)
footprint MSOP-UA8_M (TSOP, 8-Leads, Body 3x3mm, Pitch 0.65mm, IPC Low Density)
pins: 1 VDD (power), 2 ~{FAULT} (out), 3 ~{SHDN} (in), 4 GND (power), 5 SENSE (in), 6 ~{TOVER} (out), 7 GND (power), 8 PWM (out)

## TC652AGVUA
designator U?
Integrated Temperature Sensor & Brushless DC Fan Controller with FanSense Detect & Over-Temperature, 8-Pin MSOP, Extended Temperature; Manufacturer: Microchip; PartNumber: TC652AGVUA; DatasheetVersion: revB, May-2002; PackageVersion: revBB, Aug-2009; PackageReference: MSOP-UA8; PackageDescription: 8-Lead Plastic Micro Small Outline Package (UA) [MSOP]; Supplier 1: Digi-Key; Supplier Part Number 1: TC652AGVUA-ND; Supplier 2: Farnell; Supplier Part Number 2: 1852286; Supplier 3: Newark; Supplier Part Number 3: 92C6410; Supplier 4: Mouser; Supplier Part Number 4: 579-TC652AGVUA; Mounting Technology: Surface Mount; Code_JEDEC: MO-187-AA; ComponentLink1Description: Manufacturer URL; ComponentLink1URL: http://www.microchip.com/; ComponentLink2Description: Datasheet; ComponentLink2URL: http://ww1.microchip.com/downloads/en/DeviceDoc/21452b.pdf; ComponentLink3Description: Package Specification; ComponentLink3URL: http://www.microchip.com/stellent/groups/techpub_sg/documents/packagingspec/en012702.pdf
footprint MSOP-UA8_N (TSOP, 8-Leads, Body 3x3mm, Pitch 0.65mm, IPC Medium Density)
footprint MSOP-UA8_L (TSOP, 8-Leads, Body 3x3mm, Pitch 0.65mm, IPC High Density)
footprint MSOP-UA8_M (TSOP, 8-Leads, Body 3x3mm, Pitch 0.65mm, IPC Low Density)
pins: 1 VDD (power), 2 ~{FAULT} (out), 3 ~{SHDN} (in), 4 GND (power), 5 SENSE (in), 6 ~{TOVER} (out), 7 GND (power), 8 PWM (out)

## TC652AGVUATR
designator U?
Integrated Temperature Sensor & Brushless DC Fan Controller with FanSense Detect & Over-Temperature, 8-Pin MSOP, Extended Temperature, Tape and Reel; Manufacturer: Microchip; PartNumber: TC652AGVUATR; DatasheetVersion: revB, May-2002; PackageVersion: revBB, Aug-2009; PackageReference: MSOP-UA8; PackageDescription: 8-Lead Plastic Micro Small Outline Package (UA) [MSOP]; Supplier 1: Digi-Key; Supplier Part Number 1: TC652AGVUATR-ND; Supplier 2: Mouser; Supplier Part Number 2: 579-TC652AGVUATR; Mounting Technology: Surface Mount; Code_JEDEC: MO-187-AA; ComponentLink1Description: Manufacturer URL; ComponentLink1URL: http://www.microchip.com/; ComponentLink2Description: Datasheet; ComponentLink2URL: http://ww1.microchip.com/downloads/en/DeviceDoc/21452b.pdf; ComponentLink3Description: Package Specification; ComponentLink3URL: http://www.microchip.com/stellent/groups/techpub_sg/documents/packagingspec/en012702.pdf
footprint MSOP-UA8_N (TSOP, 8-Leads, Body 3x3mm, Pitch 0.65mm, IPC Medium Density)
footprint MSOP-UA8_L (TSOP, 8-Leads, Body 3x3mm, Pitch 0.65mm, IPC High Density)
footprint MSOP-UA8_M (TSOP, 8-Leads, Body 3x3mm, Pitch 0.65mm, IPC Low Density)
pins: 1 VDD (power), 2 ~{FAULT} (out), 3 ~{SHDN} (in), 4 GND (power), 5 SENSE (in), 6 ~{TOVER} (out), 7 GND (power), 8 PWM (out)

## TC652BEVUA
designator U?
Integrated Temperature Sensor & Brushless DC Fan Controller with FanSense Detect & Over-Temperature, 8-Pin MSOP, Extended Temperature; Manufacturer: Microchip; PartNumber: TC652BEVUA; DatasheetVersion: revB, May-2002; PackageVersion: revBB, Aug-2009; PackageReference: MSOP-UA8; PackageDescription: 8-Lead Plastic Micro Small Outline Package (UA) [MSOP]; Supplier 1: Digi-Key; Supplier Part Number 1: TC652BEVUA-ND; Supplier 2: Mouser; Supplier Part Number 2: 579-TC652BEVUA; Mounting Technology: Surface Mount; Code_JEDEC: MO-187-AA; ComponentLink1Description: Manufacturer URL; ComponentLink1URL: http://www.microchip.com/; ComponentLink2Description: Datasheet; ComponentLink2URL: http://ww1.microchip.com/downloads/en/DeviceDoc/21452b.pdf; ComponentLink3Description: Package Specification; ComponentLink3URL: http://www.microchip.com/stellent/groups/techpub_sg/documents/packagingspec/en012702.pdf
footprint MSOP-UA8_N (TSOP, 8-Leads, Body 3x3mm, Pitch 0.65mm, IPC Medium Density)
footprint MSOP-UA8_L (TSOP, 8-Leads, Body 3x3mm, Pitch 0.65mm, IPC High Density)
footprint MSOP-UA8_M (TSOP, 8-Leads, Body 3x3mm, Pitch 0.65mm, IPC Low Density)
pins: 1 VDD (power), 2 ~{FAULT} (out), 3 ~{SHDN} (in), 4 GND (power), 5 SENSE (in), 6 ~{TOVER} (out), 7 GND (power), 8 PWM (out)

## TC652BFVUA
designator U?
Integrated Temperature Sensor & Brushless DC Fan Controller with FanSense Detect & Over-Temperature, 8-Pin MSOP, Extended Temperature; Manufacturer: Microchip; PartNumber: TC652BFVUA; DatasheetVersion: revB, May-2002; PackageVersion: revBB, Aug-2009; PackageReference: MSOP-UA8; PackageDescription: 8-Lead Plastic Micro Small Outline Package (UA) [MSOP]; Supplier 1: Digi-Key; Supplier Part Number 1: TC652BFVUA-ND; Supplier 2: Mouser; Supplier Part Number 2: 579-TC652BFVUA; Mounting Technology: Surface Mount; Code_JEDEC: MO-187-AA; ComponentLink1Description: Manufacturer URL; ComponentLink1URL: http://www.microchip.com/; ComponentLink2Description: Datasheet; ComponentLink2URL: http://ww1.microchip.com/downloads/en/DeviceDoc/21452b.pdf; ComponentLink3Description: Package Specification; ComponentLink3URL: http://www.microchip.com/stellent/groups/techpub_sg/documents/packagingspec/en012702.pdf
footprint MSOP-UA8_N (TSOP, 8-Leads, Body 3x3mm, Pitch 0.65mm, IPC Medium Density)
footprint MSOP-UA8_L (TSOP, 8-Leads, Body 3x3mm, Pitch 0.65mm, IPC High Density)
footprint MSOP-UA8_M (TSOP, 8-Leads, Body 3x3mm, Pitch 0.65mm, IPC Low Density)
pins: 1 VDD (power), 2 ~{FAULT} (out), 3 ~{SHDN} (in), 4 GND (power), 5 SENSE (in), 6 ~{TOVER} (out), 7 GND (power), 8 PWM (out)

## TC652BFVUATR
designator U?
Integrated Temperature Sensor & Brushless DC Fan Controller with FanSense Detect & Over-Temperature, 8-Pin MSOP, Extended Temperature, Tape and Reel; Manufacturer: Microchip; PartNumber: TC652BFVUATR; DatasheetVersion: revB, May-2002; PackageVersion: revBB, Aug-2009; PackageReference: MSOP-UA8; PackageDescription: 8-Lead Plastic Micro Small Outline Package (UA) [MSOP]; Supplier 1: Digi-Key; Supplier Part Number 1: TC652BFVUATR-ND; Supplier 2: Mouser; Supplier Part Number 2: 579-TC652BFVUATR; Mounting Technology: Surface Mount; Code_JEDEC: MO-187-AA; ComponentLink1Description: Manufacturer URL; ComponentLink1URL: http://www.microchip.com/; ComponentLink2Description: Datasheet; ComponentLink2URL: http://ww1.microchip.com/downloads/en/DeviceDoc/21452b.pdf; ComponentLink3Description: Package Specification; ComponentLink3URL: http://www.microchip.com/stellent/groups/techpub_sg/documents/packagingspec/en012702.pdf
footprint MSOP-UA8_N (TSOP, 8-Leads, Body 3x3mm, Pitch 0.65mm, IPC Medium Density)
footprint MSOP-UA8_L (TSOP, 8-Leads, Body 3x3mm, Pitch 0.65mm, IPC High Density)
footprint MSOP-UA8_M (TSOP, 8-Leads, Body 3x3mm, Pitch 0.65mm, IPC Low Density)
pins: 1 VDD (power), 2 ~{FAULT} (out), 3 ~{SHDN} (in), 4 GND (power), 5 SENSE (in), 6 ~{TOVER} (out), 7 GND (power), 8 PWM (out)

## TC652CGVUA
designator U?
Integrated Temperature Sensor & Brushless DC Fan Controller with FanSense Detect & Over-Temperature, 8-Pin MSOP, Extended Temperature; Manufacturer: Microchip; PartNumber: TC652CGVUA; DatasheetVersion: revB, May-2002; PackageVersion: revBB, Aug-2009; PackageReference: MSOP-UA8; PackageDescription: 8-Lead Plastic Micro Small Outline Package (UA) [MSOP]; Supplier 1: Digi-Key; Supplier Part Number 1: TC652CGVUA-ND; Supplier 2: Mouser; Supplier Part Number 2: 579-TC652CGVUA; Mounting Technology: Surface Mount; Code_JEDEC: MO-187-AA; ComponentLink1Description: Manufacturer URL; ComponentLink1URL: http://www.microchip.com/; ComponentLink2Description: Datasheet; ComponentLink2URL: http://ww1.microchip.com/downloads/en/DeviceDoc/21452b.pdf; ComponentLink3Description: Package Specification; ComponentLink3URL: http://www.microchip.com/stellent/groups/techpub_sg/documents/packagingspec/en012702.pdf
footprint MSOP-UA8_N (TSOP, 8-Leads, Body 3x3mm, Pitch 0.65mm, IPC Medium Density)
footprint MSOP-UA8_L (TSOP, 8-Leads, Body 3x3mm, Pitch 0.65mm, IPC High Density)
footprint MSOP-UA8_M (TSOP, 8-Leads, Body 3x3mm, Pitch 0.65mm, IPC Low Density)
pins: 1 VDD (power), 2 ~{FAULT} (out), 3 ~{SHDN} (in), 4 GND (power), 5 SENSE (in), 6 ~{TOVER} (out), 7 GND (power), 8 PWM (out)

## TC652CGVUATR
designator U?
Integrated Temperature Sensor & Brushless DC Fan Controller with FanSense Detect & Over-Temperature, 8-Pin MSOP, Extended Temperature, Tape and Reel; Manufacturer: Microchip; PartNumber: TC652CGVUATR; DatasheetVersion: revB, May-2002; PackageVersion: revBB, Aug-2009; PackageReference: MSOP-UA8; PackageDescription: 8-Lead Plastic Micro Small Outline Package (UA) [MSOP]; Supplier 1: Digi-Key; Supplier Part Number 1: TC652CGVUATR-ND; Supplier 2: Mouser; Supplier Part Number 2: 579-TC652CGVUATR; Mounting Technology: Surface Mount; Code_JEDEC: MO-187-AA; ComponentLink1Description: Manufacturer URL; ComponentLink1URL: http://www.microchip.com/; ComponentLink2Description: Datasheet; ComponentLink2URL: http://ww1.microchip.com/downloads/en/DeviceDoc/21452b.pdf; ComponentLink3Description: Package Specification; ComponentLink3URL: http://www.microchip.com/stellent/groups/techpub_sg/documents/packagingspec/en012702.pdf
footprint MSOP-UA8_N (TSOP, 8-Leads, Body 3x3mm, Pitch 0.65mm, IPC Medium Density)
footprint MSOP-UA8_L (TSOP, 8-Leads, Body 3x3mm, Pitch 0.65mm, IPC High Density)
footprint MSOP-UA8_M (TSOP, 8-Leads, Body 3x3mm, Pitch 0.65mm, IPC Low Density)
pins: 1 VDD (power), 2 ~{FAULT} (out), 3 ~{SHDN} (in), 4 GND (power), 5 SENSE (in), 6 ~{TOVER} (out), 7 GND (power), 8 PWM (out)

## TC653ACVUA
designator U?
Integrated Temperature Sensor & Brushless DC Fan Controller with FanSense Detect & Over-Temperature, 8-Pin MSOP, Extended Temperature; Manufacturer: Microchip; PartNumber: TC653ACVUA; DatasheetVersion: revB, May-2002; PackageVersion: revBB, Aug-2009; PackageReference: MSOP-UA8; PackageDescription: 8-Lead Plastic Micro Small Outline Package (UA) [MSOP]; Supplier 1: Digi-Key; Supplier Part Number 1: TC653ACVUA-ND; Supplier 2: Farnell; Supplier Part Number 2: 1863983; Supplier 3: Newark; Supplier Part Number 3: 92C6418; Supplier 4: Mouser; Supplier Part Number 4: 579-TC653ACVUA; Mounting Technology: Surface Mount; Code_JEDEC: MO-187-AA; ComponentLink1Description: Manufacturer URL; ComponentLink1URL: http://www.microchip.com/; ComponentLink2Description: Datasheet; ComponentLink2URL: http://ww1.microchip.com/downloads/en/DeviceDoc/21452b.pdf; ComponentLink3Description: Package Specification; ComponentLink3URL: http://www.microchip.com/stellent/groups/techpub_sg/documents/packagingspec/en012702.pdf
footprint MSOP-UA8_N (TSOP, 8-Leads, Body 3x3mm, Pitch 0.65mm, IPC Medium Density)
footprint MSOP-UA8_L (TSOP, 8-Leads, Body 3x3mm, Pitch 0.65mm, IPC High Density)
footprint MSOP-UA8_M (TSOP, 8-Leads, Body 3x3mm, Pitch 0.65mm, IPC Low Density)
pins: 1 VDD (power), 2 ~{FAULT} (out), 3 ~{SHDN} (in), 4 GND (power), 5 SENSE (in), 6 ~{TOVER} (out), 7 GND (power), 8 PWM (out)

## TC653AEVUA
designator U?
Integrated Temperature Sensor & Brushless DC Fan Controller with FanSense Detect & Over-Temperature, 8-Pin MSOP, Extended Temperature; Manufacturer: Microchip; PartNumber: TC653AEVUA; DatasheetVersion: revB, May-2002; PackageVersion: revBB, Aug-2009; PackageReference: MSOP-UA8; PackageDescription: 8-Lead Plastic Micro Small Outline Package (UA) [MSOP]; Supplier 1: Digi-Key; Supplier Part Number 1: TC653AEVUA-ND; Supplier 2: Farnell; Supplier Part Number 2: 1852287; Supplier 3: Newark; Supplier Part Number 3: 92C6420; Supplier 4: Mouser; Supplier Part Number 4: 579-TC653AEVUA; Mounting Technology: Surface Mount; Code_JEDEC: MO-187-AA; ComponentLink1Description: Manufacturer URL; ComponentLink1URL: http://www.microchip.com/; ComponentLink2Description: Datasheet; ComponentLink2URL: http://ww1.microchip.com/downloads/en/DeviceDoc/21452b.pdf; ComponentLink3Description: Package Specification; ComponentLink3URL: http://www.microchip.com/stellent/groups/techpub_sg/documents/packagingspec/en012702.pdf
footprint MSOP-UA8_N (TSOP, 8-Leads, Body 3x3mm, Pitch 0.65mm, IPC Medium Density)
footprint MSOP-UA8_L (TSOP, 8-Leads, Body 3x3mm, Pitch 0.65mm, IPC High Density)
footprint MSOP-UA8_M (TSOP, 8-Leads, Body 3x3mm, Pitch 0.65mm, IPC Low Density)
pins: 1 VDD (power), 2 ~{FAULT} (out), 3 ~{SHDN} (in), 4 GND (power), 5 SENSE (in), 6 ~{TOVER} (out), 7 GND (power), 8 PWM (out)